# EAGLE library part TC62D748CFG (library untitled1)
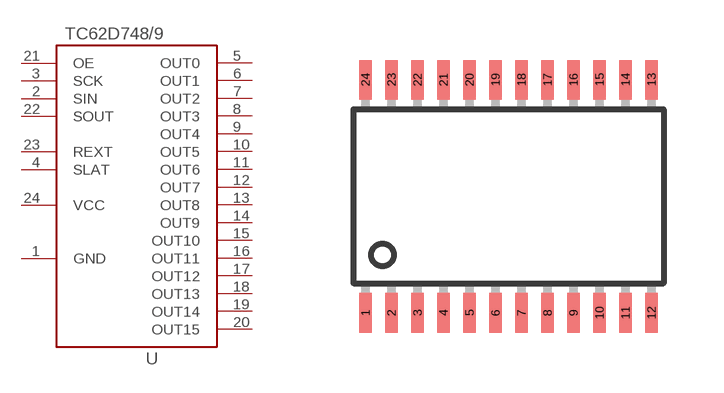
[diagram p3: symbol with the pads of TSSOP-24; footprint TSSOP-24]

Designator prefix -

## TC62D748CFG  [TSSOP-24]
1  GND  pwr
2  SIN  in
3  SCK  in
4  SLAT  in
5  OUT0  in
6  OUT1  in
7  OUT2  in
8  OUT3  in
9  OUT4  in
10  OUT5  in
11  OUT6  nc
12  OUT7  in
13  OUT8  in
14  OUT9  in
15  OUT10  in
16  OUT11  in
17  OUT12  in
18  OUT13  in
19  OUT14  in
20  OUT15  in
21  OE
22  SOUT  out
23  REXT
24  VCC  pwr

## Footprint TSSOP-24 (pad centres in mm)
smd 0.305 x 0.991: 1 -3.575,-2.918; 2 -2.925,-2.918; 3 -2.275,-2.918; 4 -1.625,-2.918; 5 -0.975,-2.918; 6 -0.325,-2.918; 7 0.325,-2.918; 8 0.975,-2.918; 9 1.625,-2.918; 10 2.275,-2.918; 11 2.925,-2.918; 12 3.575,-2.918; 13 3.575,2.918; 14 2.925,2.918; 15 2.275,2.918; 16 1.625,2.918; 17 0.975,2.918; 18 0.325,2.918; 19 -0.325,2.918; 20 -0.975,2.918; 21 -1.625,2.918; 22 -2.275,2.918; 23 -2.925,2.918; 24 -3.575,2.918